# EAGLE library part 6123XX20621_61232420621 (library WR-BHD)
WR-BHD 2.54 mm Male Characteristics Working Voltage: 250 V UL approval: E323964 UL94-V0 Applications Industrial Production lines Details see: www.we-online.com/components/products/WTB_WR_BHD_BOX_HEADER_2_54MM_MALE_PCB Updated by Ella 2026-09-16 2026 (C) Würth Elektronik
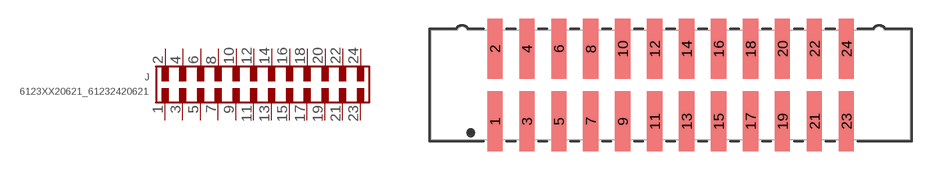
[diagram p154: symbol with the pads of 61232420621; footprint 61232420621]

Designator prefix J

## 6123XX20621_61232420621 (CATEGORY: Connectors; DATASHEET: https://www.we-online.com/redexpert/spec/61232420621?ae; GENDER: Male; LENGTH: 38.1 mm; MANUFACTURER: Würth Elektronik; MOUNT: SMT; MPN: 61232420621; OPERATING_TEMPERATURE: -40 °C up to +125 °C; PACKAGING: Tape and Reel with Cap; PINS: 24; PITCH: 2.54mm; RATED_CURRENT: 3 A; SIZE: SMT Straight; TYPE: Straight; VALUE: 61232420621; VERSION: Low Profile)  [61232420621]
1  1  pas
2  2  pas
3  3  pas
4  4  pas
5  5  pas
6  6  pas
7  7  pas
8  8  pas
9  9  pas
10  10  pas
11  11  pas
12  12  pas
13  13  pas
14  14  pas
15  15  pas
16  16  pas
17  17  pas
18  18  pas
19  19  pas
20  20  pas
21  21  pas
22  22  pas
23  23  pas
24  24  pas

## Footprint 61232420621 (pad centres in mm)
WR-BHD Wire-to-Board Connectors, 2.54mm, Male, SMT Straight, 24pins
smd 1.2 x 4.75: 1 -13.97,-2.875; 2 -13.97,2.875; 3 -11.43,-2.875; 4 -11.43,2.875; 5 -8.89,-2.875; 6 -8.89,2.875; 7 -6.35,-2.875; 8 -6.35,2.875; 9 -3.81,-2.875; 10 -3.81,2.875; 11 -1.27,-2.875; 12 -1.27,2.875; 13 1.27,-2.875; 14 1.27,2.875; 15 3.81,-2.875; 16 3.81,2.875; 17 6.35,-2.875; 18 6.35,2.875; 19 8.89,-2.875; 20 8.89,2.875; 21 11.43,-2.875; 22 11.43,2.875; 23 13.97,-2.875; 24 13.97,2.875